# Altium schematic symbol library Nosrati.SchLib: 192 symbols (part 1 of 3)
Pins are listed as number, name and electrical type; pins without a type are passive.

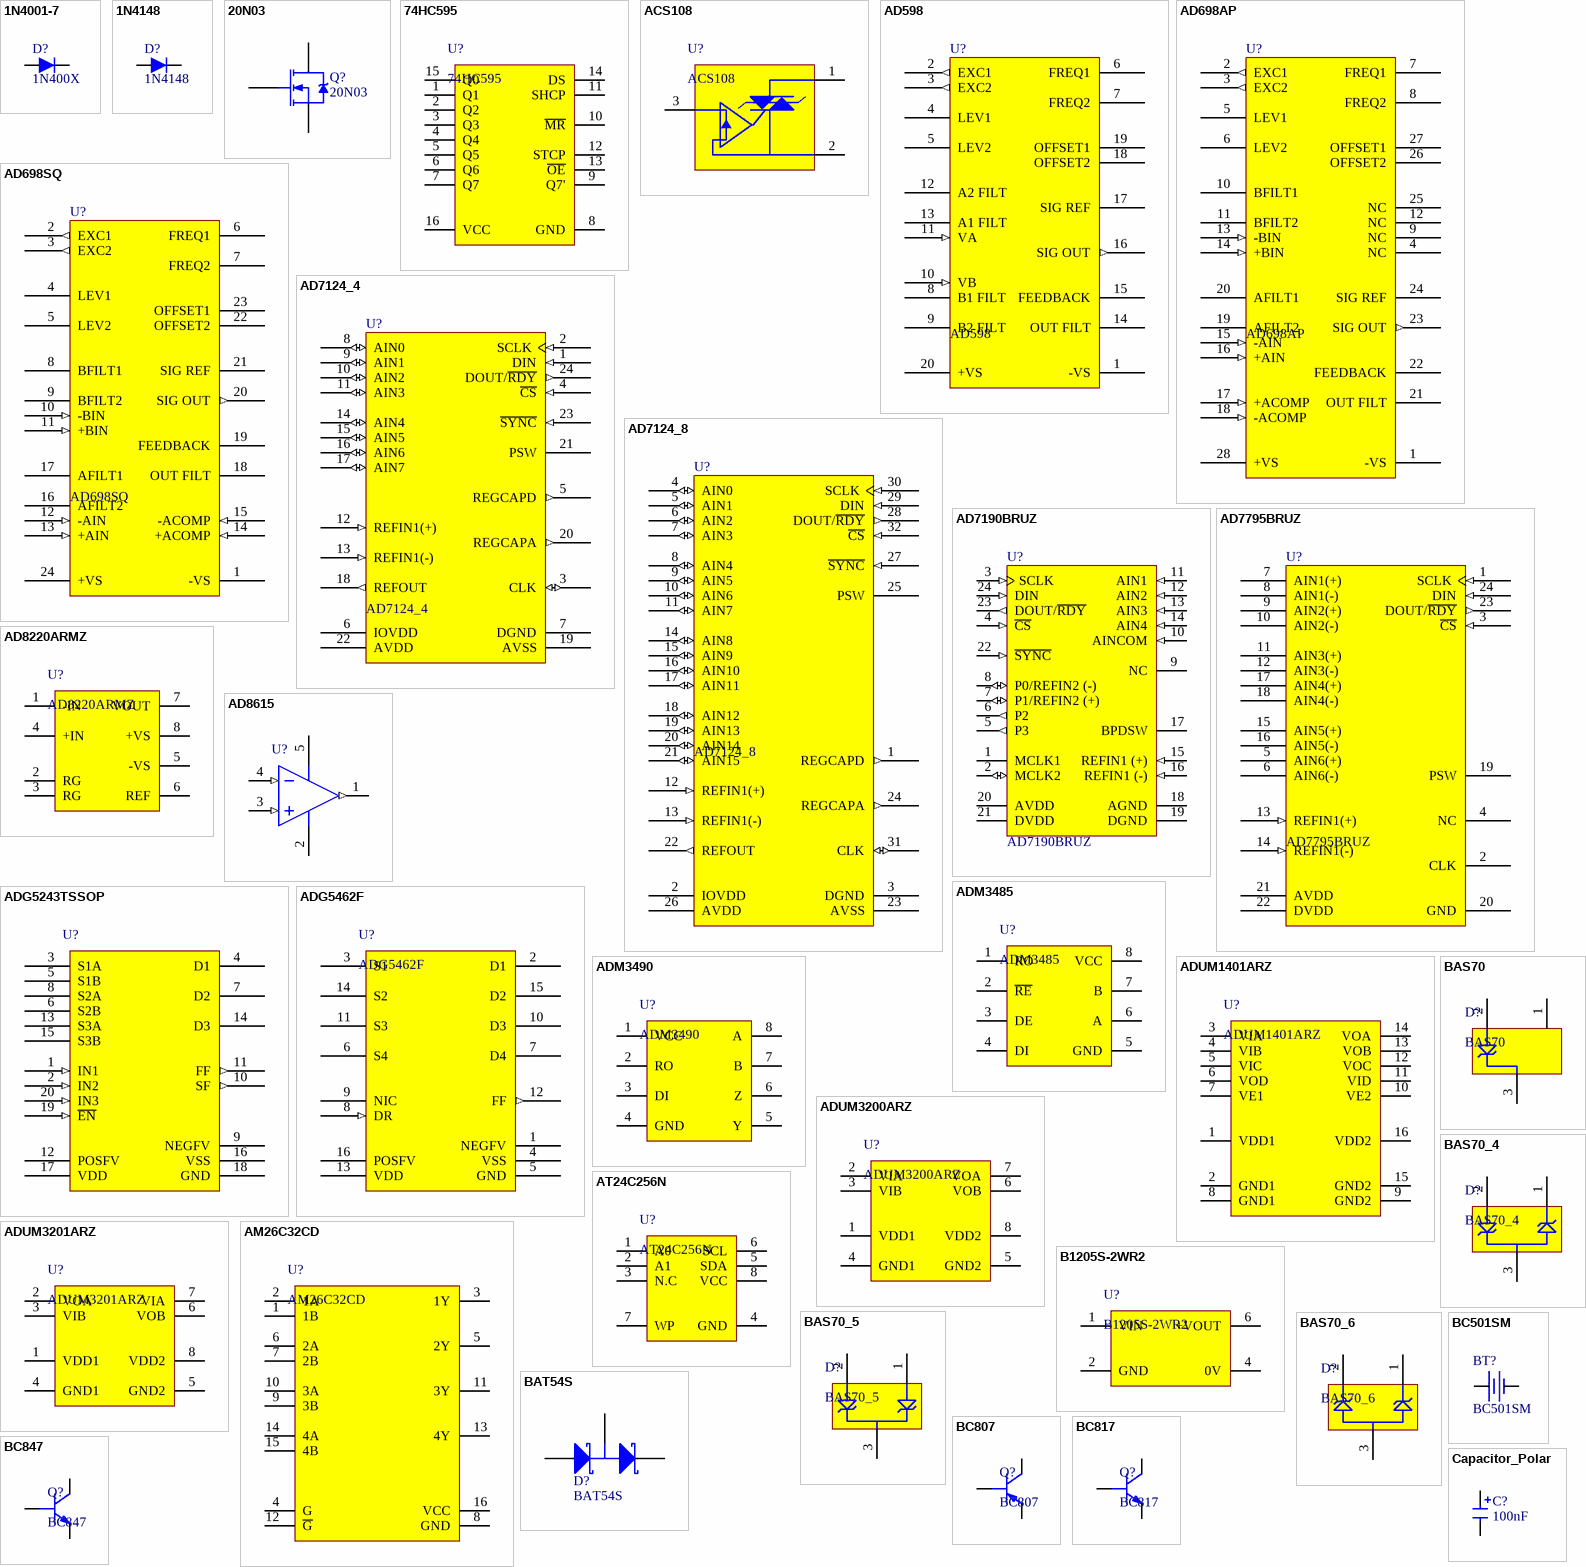
[diagram p0: symbols 1N4001-7 to Capacitor_Polar]

## 1N4001-7
designator D?, comment 1N400X
1A Rectifier Diodes.
footprint DO-214AC(SMA)
pins: 1 A, 2 K

## 1N4148
designator D?
footprint SOD-123
footprint SOD-323
pins: 1 A, 2 K

## 20N03
designator Q?
isc N-Channel MOSFET Transistor; Published: 8-Jun-2000; LatestRevisionDate: 20-Nov-2009; LatestRevisionNote: IPC-7351 Footprint Added.; DatasheetVersion: Aug-1997; PackageReference: SOT-23; Publisher: Altium Limited; PackageDescription: 3-Pin SOT-23 Package 0.95 mm Pitch, 2.3 mm Lead Span; ComponentLink1Description: Manufacturer Link; ComponentLink1URL: http://www.irf.com/; ComponentLink2Description: Datasheet; ComponentLink2URL: http://www.irf.com/product-info/datasheets/data/irlml2402.pdf
footprint TO-252
pins: 1 G, 2 D, 3 S

## 74HC595
designator U?
8-bit serial-in, serial or parallel-out shift register with output / latches; 3-state
footprint SO16
pins: 1 Q1 "parallel data output", 2 Q2 "parallel data output", 3 Q3 "parallel data output", 4 Q4 "parallel data output", 5 Q5 "parallel data output", 6 Q6 "parallel data output", 7 Q7 "parallel data output", 8 GND "Ground (0 V)", 9 Q7' "Serial data output", 10 ~{MR} "Master reset (active LOW)", 11 SHCP "Shift register clock input", 12 STCP "Storage register clock input", 13 ~{OE} "Output enable (active LOW)", 14 DS "serial data input", 15 Q0 "parallel data output", 16 VCC "Positive supply voltage"

## ACS108
designator U?
Overvoltage protected AC switch
footprint SOT223_L (SOT223, 4-Leads, Body 6.5x3.5mm, Pitch 2.3mm, Lead Span 7mm, IPC High Density)
footprint SOT223_M (SOT223, 4-Leads, Body 6.5x3.5mm, Pitch 2.3mm, Lead Span 7mm, IPC Low Density)
footprint SOT223_N (SOT223, 4-Leads, Body 6.5x3.5mm, Pitch 2.3mm, Lead Span 7mm, IPC Medium Density)
pins: 1 OUT "Output to connect to the load.", 2 COM "Common drive reference to connect to the mains", 3 G "Gate input to connect to the controller through gate resistor"

## AD598
designator U?
LVDT Signal Conditioner; Generic Part Number: AD7190; Manufacturer: Analog Devices; PartNumber: AD7190BRUZ; Resolution (Bits): 24; Channels: 4; Throughput Rate (SPS): 4.8K; Interface: Ser, SPI; Packing: Tube; DatasheetVersion: Rev.B; PackageVersion: 2002; PackageReference: RU-24; PackageDescription: 24-Lead Thin Shrink Small Outline Package [TSSOP]; Supplier 1: Digi-Key; Supplier Part Number 1: AD7190BRUZ-ND; Supplier 2: Farnell; Supplier Part Number 2: 2305548; Supplier 3: Newark; Supplier Part Number 3: 34P3182; Supplier 4: Mouser; Supplier Part Number 4: 584-AD7190BRUZ; RoHS: Y; Mounting Technology: Surface Mount; Code_JEDEC: MO-153-AD; ComponentLink1Description: Manufacturer URL; ComponentLink1URL: http://www.analog.com/en/index.html; ComponentLink2Description: Datasheet; ComponentLink2URL: http://www.analog.com/static/imported-files/data_sheets/AD7190.pdf; ComponentLink3Description: Package Specification; ComponentLink3URL: http://www.analog.com/static/imported-files/packages/380523655245964505593671154107510036154RU24.pdf; ComponentLink4Description: Product URL; ComponentLink4URL: http://www.analog.com/en/analog-to-digital-converters/ad-converters/ad7190/products/product.html
footprint DIP20
pins: 1 -VS, 2 EXC1 (out), 3 EXC2 (out), 4 LEV1, 5 LEV2, 6 FREQ1, 7 FREQ2, 8 B1 FILT, 9 B2 FILT, 10 VB (in), 11 VA (in), 12 A2 FILT, 13 A1 FILT, 14 OUT FILT, 15 FEEDBACK, 16 SIG OUT (out), 17 SIG REF, 18 OFFSET2, 19 OFFSET1, 20 +VS

## AD698AP
designator U?
LVDT Signal Conditioner; Generic Part Number: AD7190; Manufacturer: Analog Devices; PartNumber: AD7190BRUZ; Resolution (Bits): 24; Channels: 4; Throughput Rate (SPS): 4.8K; Interface: Ser, SPI; Packing: Tube; DatasheetVersion: Rev.B; PackageVersion: 2002; PackageReference: RU-24; PackageDescription: 24-Lead Thin Shrink Small Outline Package [TSSOP]; Supplier 1: Digi-Key; Supplier Part Number 1: AD7190BRUZ-ND; Supplier 2: Farnell; Supplier Part Number 2: 2305548; Supplier 3: Newark; Supplier Part Number 3: 34P3182; Supplier 4: Mouser; Supplier Part Number 4: 584-AD7190BRUZ; RoHS: Y; Mounting Technology: Surface Mount; Code_JEDEC: MO-153-AD; ComponentLink1Description: Manufacturer URL; ComponentLink1URL: http://www.analog.com/en/index.html; ComponentLink2Description: Datasheet; ComponentLink2URL: http://www.analog.com/static/imported-files/data_sheets/AD7190.pdf; ComponentLink3Description: Package Specification; ComponentLink3URL: http://www.analog.com/static/imported-files/packages/380523655245964505593671154107510036154RU24.pdf; ComponentLink4Description: Product URL; ComponentLink4URL: http://www.analog.com/en/analog-to-digital-converters/ad-converters/ad7190/products/product.html
footprint PLCC28_M (PLCC 28-Pin)
footprint PLCC28_N (PLCC 28-Pin)
footprint PLCC28_L (PLCC 28-Pin)
pins: 1 -VS, 2 EXC1 (out), 3 EXC2 (out), 4 NC, 5 LEV1, 6 LEV2, 7 FREQ1, 8 FREQ2, 9 NC, 10 BFILT1, 11 BFILT2, 12 NC, 13 -BIN (in), 14 +BIN (in), 15 -AIN (in), 16 +AIN (in), 17 +ACOMP (in), 18 -ACOMP (in), 19 AFILT2, 20 AFILT1, 21 OUT FILT, 22 FEEDBACK, 23 SIG OUT (out), 24 SIG REF, 25 NC, 26 OFFSET2, 27 OFFSET1, 28 +VS

## AD698SQ
designator U?
LVDT Signal Conditioner; Generic Part Number: AD7190; Manufacturer: Analog Devices; PartNumber: AD7190BRUZ; Resolution (Bits): 24; Channels: 4; Throughput Rate (SPS): 4.8K; Interface: Ser, SPI; Packing: Tube; DatasheetVersion: Rev.B; PackageVersion: 2002; PackageReference: RU-24; PackageDescription: 24-Lead Thin Shrink Small Outline Package [TSSOP]; Supplier 1: Digi-Key; Supplier Part Number 1: AD7190BRUZ-ND; Supplier 2: Farnell; Supplier Part Number 2: 2305548; Supplier 3: Newark; Supplier Part Number 3: 34P3182; Supplier 4: Mouser; Supplier Part Number 4: 584-AD7190BRUZ; RoHS: Y; Mounting Technology: Surface Mount; Code_JEDEC: MO-153-AD; ComponentLink1Description: Manufacturer URL; ComponentLink1URL: http://www.analog.com/en/index.html; ComponentLink2Description: Datasheet; ComponentLink2URL: http://www.analog.com/static/imported-files/data_sheets/AD7190.pdf; ComponentLink3Description: Package Specification; ComponentLink3URL: http://www.analog.com/static/imported-files/packages/380523655245964505593671154107510036154RU24.pdf; ComponentLink4Description: Product URL; ComponentLink4URL: http://www.analog.com/en/analog-to-digital-converters/ad-converters/ad7190/products/product.html
footprint DIP24-Wide
pins: 1 -VS, 2 EXC1 (out), 3 EXC2 (out), 4 LEV1, 5 LEV2, 6 FREQ1, 7 FREQ2, 8 BFILT1, 9 BFILT2, 10 -BIN (in), 11 +BIN (in), 12 -AIN (in), 13 +AIN (in), 14 +ACOMP (in), 15 -ACOMP (in), 16 AFILT2, 17 AFILT1, 18 OUT FILT, 19 FEEDBACK, 20 SIG OUT (out), 21 SIG REF, 22 OFFSET2, 23 OFFSET1, 24 +VS

## AD7124_4
designator U?
4-Channel, Low Noise, Low Power, 24-Bit, Sigma-Delta ADC with PGA and Reference; Generic Part Number: AD7190; Manufacturer: Analog Devices; PartNumber: AD7190BRUZ; Resolution (Bits): 24; Channels: 4; Throughput Rate (SPS): 4.8K; Interface: Ser, SPI; Packing: Tube; DatasheetVersion: Rev.B; PackageVersion: 2002; PackageReference: RU-24; PackageDescription: 24-Lead Thin Shrink Small Outline Package [TSSOP]; Supplier 1: Digi-Key; Supplier Part Number 1: AD7190BRUZ-ND; Supplier 2: Farnell; Supplier Part Number 2: 2305548; Supplier 3: Newark; Supplier Part Number 3: 34P3182; Supplier 4: Mouser; Supplier Part Number 4: 584-AD7190BRUZ; RoHS: Y; Mounting Technology: Surface Mount; Code_JEDEC: MO-153-AD; ComponentLink1Description: Manufacturer URL; ComponentLink1URL: http://www.analog.com/en/index.html; ComponentLink2Description: Datasheet; ComponentLink2URL: http://www.analog.com/static/imported-files/data_sheets/AD7190.pdf; ComponentLink3Description: Package Specification; ComponentLink3URL: http://www.analog.com/static/imported-files/packages/380523655245964505593671154107510036154RU24.pdf; ComponentLink4Description: Product URL; ComponentLink4URL: http://www.analog.com/en/analog-to-digital-converters/ad-converters/ad7190/products/product.html
footprint TSSOP24
pins: 1 DIN (in) "Serial Data Input to the Input Shift Register on the ADC.", 2 SCLK (in) "Serial Clock Input.", 3 CLK (io) "Clock Input/Clock Output.", 4 ~{CS} (in) "Chip Select Input", 5 REGCAPD (out) "Digital LDO Regulator Output.", 6 IOVDD (power) "Serial Interface Supply Voltage, 1.65 V to 3.6 V. IOVDD is independent of AVDD.", 7 DGND (power) "Digital Ground Reference Point.", 8 AIN0 (io) "Analog Input 0 /Output of Internal Excitation Current Source/Bias Voltage.", 9 AIN1 (io) "Analog Input 1 /Output of Internal Excitation Current Source/Bias Voltage.", 10 AIN2 (io) "Analog Input 2/Output of Internal Excitation Current Source/Bias Voltage/GeneralPurpose Output 1.", 11 AIN3 (io) "Analog Input 3/Output of Internal Excitation Current Source/Bias Voltage/GeneralPurpose Output 2.", 12 REFIN1(+) (in) "Positive Reference Input.", 13 REFIN1(-) (in) "Negative Reference Input.", 14 AIN4 (io) "Analog Input 4/Output of Internal Excitation Current Source/Bias Voltage.", 15 AIN5 (io) "Analog Input 5/Output of Internal Excitation Current Source/Bias Voltage.", 16 AIN6 (io) "Analog Input 6/Output of Internal Excitation Current Source/Bias Voltage/Positive Reference Inpput.", 17 AIN7 (io) "Analog Input 7/Output of Internal Excitation Current Source/Bias Voltage/Negative Reference Inpput.", 18 REFOUT (out) "Internal Reference Output.", 19 AVSS (power) "Analog Supply Voltage.", 20 REGCAPA (out) "Analog LDO Regulator Output.", 21 PSW "Low-Side Power Switch to AVSS", 22 AVDD (power) "Analog Supply Voltage, Relative to AVSS.", 23 ~{SYNC} (in) "Synchronization Input.", 24 DOUT/~{RDY} (out) "Serial Data Output/Data Ready Output."

## AD7124_8
designator U?
8-Channel, Low Noise, Low Power, 24-Bit, Sigma-Delta ADC with PGA and Reference; Generic Part Number: AD7190; Manufacturer: Analog Devices; PartNumber: AD7190BRUZ; Resolution (Bits): 24; Channels: 4; Throughput Rate (SPS): 4.8K; Interface: Ser, SPI; Packing: Tube; DatasheetVersion: Rev.B; PackageVersion: 2002; PackageReference: RU-24; PackageDescription: 24-Lead Thin Shrink Small Outline Package [TSSOP]; Supplier 1: Digi-Key; Supplier Part Number 1: AD7190BRUZ-ND; Supplier 2: Farnell; Supplier Part Number 2: 2305548; Supplier 3: Newark; Supplier Part Number 3: 34P3182; Supplier 4: Mouser; Supplier Part Number 4: 584-AD7190BRUZ; RoHS: Y; Mounting Technology: Surface Mount; Code_JEDEC: MO-153-AD; ComponentLink1Description: Manufacturer URL; ComponentLink1URL: http://www.analog.com/en/index.html; ComponentLink2Description: Datasheet; ComponentLink2URL: http://www.analog.com/static/imported-files/data_sheets/AD7190.pdf; ComponentLink3Description: Package Specification; ComponentLink3URL: http://www.analog.com/static/imported-files/packages/380523655245964505593671154107510036154RU24.pdf; ComponentLink4Description: Product URL; ComponentLink4URL: http://www.analog.com/en/analog-to-digital-converters/ad-converters/ad7190/products/product.html
footprint CP32_N (QFN, 32-Leads, Body 5x5mm, Pitch 0.5mm)
footprint CP32_M (QFN, 32-Leads, Body 5x5mm)
footprint CP32_L (QFN, 32-Leads, Body 5x5mm)
pins: 1 REGCAPD (out) "Digital LDO Regulator Output.", 2 IOVDD (power) "Serial Interface Supply Voltage, 1.65 V to 3.6 V. IOVDD is independent of AVDD.", 3 DGND (power) "Digital Ground Reference Point.", 4 AIN0 (io) "Analog Input 0/Output of Internal Excitation Current Source/Bias Voltage.", 5 AIN1 (io) "Analog Input 1/Output of Internal Excitation Current Source/Bias Voltage.", 6 AIN2 (io) "Analog Input 2/Output of Internal Excitation Current Source/Bias Voltage/General-Purpose Output 1.", 7 AIN3 (io) "Analog Input 3/Output of Internal Excitation Current Source/Bias Voltage/General-Purpose Output 2.", 8 AIN4 (io) "Analog Input 4/Output of Internal Excitation Current Source/Bias Voltage/General-Purpose Output 3.", 9 AIN5 (io) "Analog Input 5/Output of Internal Excitation Current Source/Bias Voltage/General-Purpose Output 4.", 10 AIN6 (io) "Analog Input 6/Output of Internal Excitation Current Source/Bias Voltage.", 11 AIN7 (io) "Analog Input 7/Output of Internal Excitation Current Source/Bias Voltage.", 12 REFIN1(+) (in) "Positive Reference Input.", 13 REFIN1(-) (in) "Negative Reference Input.", 14 AIN8 (io) "Analog Input 8/Output of Internal Excitation Current Source/Bias Voltage.", 15 AIN9 (io) "Analog Input 9/Output of Internal Excitation Current Source/Bias Voltage.", 16 AIN10 (io) "Analog Input 10/Output of Internal Excitation Current Source/Bias Voltage.", 17 AIN11 (io) "Analog Input 11/Output of Internal Excitation Current Source/Bias Voltage.", 18 AIN12 (io) "Analog Input 12/Output of Internal Excitation Current Source/Bias Voltage.", 19 AIN13 (io) "Analog Input 13/Output of Internal Excitation Current Source/Bias Voltage.", 20 AIN14 (io) "Analog Input 14/Output of Internal Excitation Current Source/Bias Voltage/Positive Reference Input.", 21 AIN15 (io) "Analog Input 15/Output of Internal Excitation Current Source/Bias Voltage/Negative Reference Input.", 22 REFOUT (out) "Internal Reference Output.", 23 AVSS (power) "Analog Supply Voltage.", 24 REGCAPA (out) "Analog LDO Regulator Output.", 25 PSW "Low-Side Power Switch to AVSS", 26 AVDD (power) "Analog Supply Voltage, Relative to AVSS.", 27 ~{SYNC} (in) "Synchronization Input.", 28 DOUT/~{RDY} (out) "Serial Data Output/Data Ready Output.", 29 DIN (in) "Serial Data Input to the Input Shift Register on the ADC.", 30 SCLK (in) "Serial Clock Input.", 31 CLK (io) "Clock Input/Clock Output.", 32 ~{CS} (in) "Chip Select Input"

## AD7190BRUZ
designator U?
Quad 24-Bit Ultralow Noise Sigma-Delta Analog-to-Digital Converter with Serial, SPI Interface and PGA, 4.8KSPS, -40 to +105 degC, RU-24, Pb-Free, Tube; Generic Part Number: AD7190; Manufacturer: Analog Devices; Resolution (Bits): 24; Channels: 4; Throughput Rate (SPS): 4.8K; Interface: Ser, SPI; DatasheetVersion: Rev.B; PackageVersion: 2002; PackageReference: RU-24; PackageDescription: 24-Lead Thin Shrink Small Outline Package [TSSOP]; Supplier 1: Digi-Key; Supplier Part Number 1: AD7190BRUZ-ND; Supplier 2: Farnell; Supplier Part Number 2: 2305548; Supplier 3: Newark; Supplier Part Number 3: 34P3182; Supplier 4: Mouser; Supplier Part Number 4: 584-AD7190BRUZ; RoHS: Y; Packing: Tube; Mounting Technology: Surface Mount; Code_JEDEC: MO-153-AD; PartNumber: AD7190BRUZ; ComponentLink1Description: Manufacturer URL; ComponentLink1URL: http://www.analog.com/en/index.html; ComponentLink2Description: Datasheet; ComponentLink2URL: http://www.analog.com/static/imported-files/data_sheets/AD7190.pdf; ComponentLink3Description: Package Specification; ComponentLink3URL: http://www.analog.com/static/imported-files/packages/380523655245964505593671154107510036154RU24.pdf; ComponentLink4Description: Product URL; ComponentLink4URL: http://www.analog.com/en/analog-to-digital-converters/ad-converters/ad7190/products/product.html
footprint TSSOP24
pins: 1 MCLK1 "When the master clock for the device is provided externally by a crystal, the crystal is connected between MCLK1 and MCLK2.", 2 MCLK2 (io) "Master Clock Signal for the Device. The AD7190 has an internal 4.92 MHz clock. This internal clock can be made available on the MCLK2 pin. The clock for the AD7190 can be provided externally also in the form of a crystal or (See Datasheet)", 3 SCLK (in) "Serial Clock Input. This serial clock input is for data transfers to and from the ADC. The SCLK has a Schmitt-triggered input, making the interface suitable for opto-isolated applications. The serial clock can be continuous (See Datasheet)", 4 ~{CS} (in) "Chip Select Input. This is an active low logic input used to select the ADC. C\S\ can be used to select the ADC in systems with more than one device on the serial bus or as a frame synchronization signal in communicating (See Datasheet)", 5 P3 (out) "Digital Output Pin. This pin can function as a general-purpose output bit referenced between AVDD and AGND.", 6 P2 (out) "Digital Output Pin. This pin can function as a general-purpose output bit referenced between AVDD and AGND.", 7 P1/REFIN2 (+) (io) "Digital Output Pin/Positive Reference Input. This pin functions as a general-purpose output bit referenced between AVDD and AGND. When REFSEL = 1, this pin functions as REFIN2(+). An external reference can be applied between (See Datasheet)", 8 P0/REFIN2 (-) (io) "Digital Output Pin/Negative Reference Input. This pin functions as a general-purpose output bit referenced between AVDD and AGND. When REFSEL = 1, this pin functions as REFIN2(-). This reference input can lie anywhere (See Datasheet)", 9 NC "No Connect. This pin should be tied to AGND.", 10 AINCOM (in) "Analog Input AIN1 to Analog Input AIN4 are referenced to this input when configured for pseudo differential operation.", 11 AIN1 (in) "Analog Input. It can be configured as the positive input of a fully differential input pair when used with AIN2 or as a pseudo differential input when used with AINCOM.", 12 AIN2 (in) "Analog Input. It can be configured as the negative input of a fully differential input pair when used with AIN1 or as a pseudo differential input when used with AINCOM.", 13 AIN3 (in) "Analog Input. It can be configured as the positive input of a fully differential input pair when used with AIN4 or as a pseudo differential input when used with AINCOM.", 14 AIN4 (in) "Analog Input. It can be configured as the negative input of a fully differential input pair when used with AIN3 or as a pseudo differential input when used with AINCOM.", 15 REFIN1 (+) (in) "Positive Reference Input. An external reference can be applied between REFIN1(+) and REFIN1(-). REFIN1(+) can lie anywhere between AVDD and AGND + 1 V. The nominal reference voltage, (REFIN1(+) - REFIN1(-)), is AVDD, but the (See Datasheet)", 16 REFIN1 (-) (in) "Negative Reference Input. This reference input can lie anywhere between AGND and AVDD -1 V.", 17 BPDSW "Bridge Power-Down Switch to AGND.", 18 AGND (power) "Analog Ground Reference Point.", 19 DGND (power) "Digital Ground Reference Point.", 20 AVDD (power) "Analog Supply Voltage, 4.75 V to 5.25 V. AVDD is independent of DVDD.", 21 DVDD (power) "Digital Supply Voltage, 2.7 V to 5.25 V. DVDD is independent of AVDD.", 22 ~{SYNC} (in) "Logic input that allows for synchronization of the digital filters and analog modulators when using multiple AD7190 devices. While S\Y\N\C\ is low, the nodes of the digital filter, the filter control logic, and the (See Datasheet)", 23 DOUT/~{RDY} (out) "Serial Data Output/Data Ready Output. DOUT/R\D\Y\serves a dual purpose. It functions as a serial data output pin to access the output shift register of the ADC. The output shift register can contain data from any of the (See Datasheet)", 24 DIN (in) "Serial Data Input to the Input Shift Register on the ADC. Data in this shift register is transferred to the control registers in the ADC, with the register selection bits of the communications register identifying the (See Datasheet)"

## AD7795BRUZ
designator U?
6-Channel, Low Noise, Low Power, 16-Bit ∑-Δ ADC with On-Chip In-Amp and Reference; Generic Part Number: AD7190; Manufacturer: Analog Devices; PartNumber: AD7190BRUZ; Resolution (Bits): 24; Channels: 4; Throughput Rate (SPS): 4.8K; Interface: Ser, SPI; Packing: Tube; DatasheetVersion: Rev.B; PackageVersion: 2002; PackageReference: RU-24; PackageDescription: 24-Lead Thin Shrink Small Outline Package [TSSOP]; Supplier 1: Digi-Key; Supplier Part Number 1: AD7190BRUZ-ND; Supplier 2: Farnell; Supplier Part Number 2: 2305548; Supplier 3: Newark; Supplier Part Number 3: 34P3182; Supplier 4: Mouser; Supplier Part Number 4: 584-AD7190BRUZ; RoHS: Y; Mounting Technology: Surface Mount; Code_JEDEC: MO-153-AD; ComponentLink1Description: Manufacturer URL; ComponentLink1URL: http://www.analog.com/en/index.html; ComponentLink2Description: Datasheet; ComponentLink2URL: http://www.analog.com/static/imported-files/data_sheets/AD7190.pdf; ComponentLink3Description: Package Specification; ComponentLink3URL: http://www.analog.com/static/imported-files/packages/380523655245964505593671154107510036154RU24.pdf; ComponentLink4Description: Product URL; ComponentLink4URL: http://www.analog.com/en/analog-to-digital-converters/ad-converters/ad7190/products/product.html
footprint TSSOP24
pins: 1 SCLK (in) "Serial Clock Input.", 2 CLK "Clock Input/Clock Output.", 3 ~{CS} (in) "Chip Select Input", 4 NC "No Connect.", 5 AIN6(+) "Analog Input/Digital Output Pin.", 6 AIN6(-) "Analog Input/Digital Output Pin.", 7 AIN1(+) "Analog Input.", 8 AIN1(-) "Analog Input.", 9 AIN2(+) "Analog Input.", 10 AIN2(-) "Analog Input.", 11 AIN3(+) "Analog Input.", 12 AIN3(-) "Analog Input.", 13 REFIN1(+) (in) "Positive Reference Input.", 14 REFIN1(-) (in) "Negative Reference Input.", 15 AIN5(+) "Analog Input/Output of Internal Excitation Current Source.", 16 AIN5(-) "Analog Input/Output of Internal Excitation Current Source.", 17 AIN4(+) "Analog Input/Positive Reference Input.", 18 AIN4(-) "Analog Input/Negative Reference Input.", 19 PSW "Low-Side Power Switch to GND", 20 GND (power) "Ground Reference Point.", 21 AVDD (power) "Supply Voltage, 2.7 V to 5.25 V.", 22 DVDD (power) "Serial Interface Supply Voltage, 2.7 V to 5.25 V.", 23 DOUT/~{RDY} (out) "Serial Data Output/Data Ready Output.", 24 DIN (in) "Serial Data Input to the Input Shift Register on the ADC."

## AD8220ARMZ
designator U?
jfet input Instrumentation amplifier with rail-to-rail output
footprint MSOP-8
pins: 1 -IN, 2 RG, 3 RG, 4 +IN, 5 -VS, 6 REF, 7 VOUT, 8 +VS

## AD8615
designator U?
Single Channel Wide Bandwidth Operational Amplifier, 23 MHz BW, 12 V/us SR, Industrial, 5-pin SOT23 (UJ-5), Reel; Generic Part Number: AD8615; Manufacturer: Analog Devices; PartNumber: AD8615AUJZ-REEL; Amplifiers Per Package: 1; Input Bias Current: 200fA; Input Offset Voltage: 80uV; Iq/Amp: 1.7mA; Slew Rate: 12V/us; Small Signal Bandwidth: 23MHz; V Span Max: 6V; V Span Min: 2.7V; DatasheetVersion: Rev. E; PackageVersion: 100708-A; PackageReference: UJ-5; PackageDescription: 5-Pin Thin Small Outline Transistor Package, Body 2.9 x 1.6 mm, Pitch 0.95 mm; Supplier 1: Digi-Key; Supplier Part Number 1: AD8615AUJZ-REEL-ND; Mounting Technology: Surface Mount; Code_JEDEC: MO-193-AB; ComponentLink1Description: Manufacturer URL; ComponentLink1URL: http://www.analog.com/en/index.html; ComponentLink2Description: Datasheet; ComponentLink2URL: http://www.analog.com/static/imported-files/data_sheets/AD8615_8616_8618.pdf; ComponentLink3Description: Package Specification; ComponentLink3URL: http:/www.analog.com/static/imported-files/packages/PKG_PDF/TSOT(UJ)/UJ_5.pdf; ComponentLink4Description: Reference Circuit; ComponentLink4URL: http://www.analog.com/en/all-operational-amplifiers-op-amps/operational-amplifiers-op-amps/ad8615/products/product.html#product-recommendations
footprint SOT23-5_M
footprint SOT23-5_L
footprint SOT23-5_N
pins: 1 OUT (out), 2 -V (power), 3 +IN (in), 4 -IN (in), 5 +V (power)

## ADG5243TSSOP
designator U?
User Defined Fault Protection and Detection, 0.8 pC QINJ, Triple SPDT; Manufacturer: Analog Devices; PartNumber: ADG5434BRUZ; # Sw Functions: 4; Max Neg Supply: -22V; Max Pos Supply: +40V; Packing: Tube; Ron (ohms): 13.5, 12.5, 26, 14.5; t ON: 160ns, 152ns, 228ns, 176ns; DatasheetVersion: Rev. B; PackageVersion: Jan-03; PackageReference: RU-20; PackageDescription: 20-Pin Thin Shrink Small Outline Package, Body 6.5 x 4.4 mm, Pitch 0.65 mm; Supplier 1: Digi-Key; Supplier Part Number 1: ADG5434BRUZ-ND; Supplier 2: Farnell; Supplier Part Number 2: 2081055; Supplier 3: Newark; Supplier Part Number 3: 18T1966; Supplier 4: Mouser; Supplier Part Number 4: 584-ADG5434BRUZ; Configuration: SPDT; Mounting Technology: Surface Mount; Code_JEDEC: MO-153AC; ComponentLink1Description: Manufacturer URL; ComponentLink1URL: http://www.analog.com/en/index.html; ComponentLink2Description: Datasheet; ComponentLink2URL: http://www.analog.com/static/imported-files/data_sheets/ADG5433_5434.pdf; ComponentLink3Description: Package Specification; ComponentLink3URL: http://www.analog.com/static/imported-files/packages/364515793657813558433715854054607941441RU20.pdf
footprint TSSOP20_L (SOP, 20-Leads, Body 6.6x4.5mm, Pitch 0.65mm, IPC High Density)
footprint TSSOP20_M (SOP, 20-Leads, Body 6.6x4.5mm, Pitch 0.65mm, IPC Low Density)
footprint TSSOP20_N (SOP, 20-Leads, Body 6.6x4.5mm, Pitch 0.65mm, IPC Medium Density)
pins: 1 IN1 (in) "Logic Control Input 1.", 2 IN2 (in) "Logic Control Input 1.", 3 S1A "Source Terminal 1A. This pin can be an input or an output.", 4 D1 "Drain Terminal 1. This pin can be an input or an output.", 5 S1B "Source Terminal 1B. This pin can be an input or an output.", 6 S2B "Source Terminal 2B. This pin can be an input or an output.", 7 D2 "Drain Terminal 2. This pin can be an input or an output.", 8 S2A "Source Terminal 2A. This pin can be an input or an output.", 9 NEGFV (power) "Negative Fault Voltage.", 10 SF (out) "Specific Fault Digital Output", 11 FF (out) "Fault Flag Digital Output.", 12 POSFV (power) "Positive Fault Voltage.", 13 S3A "Source Terminal 3A. This pin can be an input or an output.", 14 D3 "Drain Terminal 3. This pin can be an input or an output.", 15 S3B "Source Terminal 3B. This pin can be an input or an output.", 16 VSS (power) "Most Negative Power Supply Potential. In single-supply applications, this pin can be connected to ground.", 17 VDD (power) "Most Positive Power Supply Potential.", 18 GND (power) "Ground (0 V) Reference.", 19 ~{EN} (in) "Active Low Digital Input", 20 IN3 (in) "Logic Control Input 3."

## ADG5462F
designator U?
User Defined Fault Protection and Detection,10 Ω RON, Quad Channel Protector; Manufacturer: Analog Devices; PartNumber: ADG5434BRUZ; # Sw Functions: 4; Configuration: SPDT; Max Neg Supply: -22V; Max Pos Supply: +40V; Packing: Tube; Ron (ohms): 13.5, 12.5, 26, 14.5; t ON: 160ns, 152ns, 228ns, 176ns; DatasheetVersion: Rev. B; PackageVersion: Jan-03; PackageReference: RU-20; PackageDescription: 20-Pin Thin Shrink Small Outline Package, Body 6.5 x 4.4 mm, Pitch 0.65 mm; Supplier 1: Digi-Key; Supplier Part Number 1: ADG5434BRUZ-ND; Supplier 2: Farnell; Supplier Part Number 2: 2081055; Supplier 3: Newark; Supplier Part Number 3: 18T1966; Supplier 4: Mouser; Supplier Part Number 4: 584-ADG5434BRUZ; Mounting Technology: Surface Mount; Code_JEDEC: MO-153AC; ComponentLink1Description: Manufacturer URL; ComponentLink1URL: http://www.analog.com/en/index.html; ComponentLink2Description: Datasheet; ComponentLink2URL: http://www.analog.com/static/imported-files/data_sheets/ADG5433_5434.pdf; ComponentLink3Description: Package Specification; ComponentLink3URL: http://www.analog.com/static/imported-files/packages/364515793657813558433715854054607941441RU20.pdf
footprint TSSOP16
pins: 1 NEGFV (power) "Negative Fault Voltage.", 2 D1 "Drain Terminal 1. This pin can be an input or an output.", 3 S1 "Overvoltage Protected Source Terminal 1.", 4 VSS (power) "Most Negative Power Supply Potential. In single-supply applications, this pin can be connected to ground.", 5 GND (power) "Ground (0 V) Reference.", 6 S4 "Overvoltage Protected Source Terminal 4.", 7 D4 "Drain Terminal 4. This pin can be an input or an output.", 8 DR (in) "Drain Response Digital Input.", 9 NIC "Not Internally Connected.", 10 D3 "Drain Terminal 3. This pin can be an input or an output.", 11 S3 "Overvoltage Protected Source Terminal 3.", 12 FF (out) "Fault Flag Digital Output.", 13 VDD (power) "Most Positive Power Supply Potential.", 14 S2 "Overvoltage Protected Source Terminal 2.", 15 D2 "Drain Terminal 2. This pin can be an input or an output.", 16 POSFV (power) "Positive Fault Voltage."

## ADM3485
designator U?
3.3V, Half-Duplex, RS-485/RS422 Transceiver
footprint SOIC8
pins: 1 RO "Receiver Output.", 2 ~{RE}, 3 DE, 4 DI "Driver Input.", 5 GND "Ground.", 6 A "Noninverting Receiver Input A and Noninverting Driver Output A.", 7 B "nverting Receiver Input B and Inverted Driver Output B.", 8 VCC "Power Supply (3.3 V ± 0.3 V)."

## ADM3490
designator U?
3.3V, Full-Duplex, RS-485/RS422 Transceiver
footprint SOIC8_N (SOIC, 8-Leads, Body 4.9x3.9mm, Pitch 1.27mm, IPC Medium Density)
pins: 1 VCC "Power Supply (3.3 V ± 0.3 V).", 2 RO "Receiver Output.", 3 DI "Driver Input.", 4 GND "Ground.", 5 Y "Noninverting Driver Output.", 6 Z "Inverting Driver Output.", 7 B "Inverting Receiver Input B.", 8 A "Noninverting Receiver Input A."

## ADUM1401ARZ
designator U?
Quad-Channel, Digital Isolators, Enhanced System-Level ESD Reliability
footprint SOIC16W_L (SOIC, 16-Leads, Body (Wide) - 10.5x7.5mm, Pitch 1.27mm)
footprint SOIC16W_M (SOIC, 16-Leads, Body (Wide) - 10.5x7.5mm, Pitch 1.27mm)
footprint SOIC16W_N (SOIC, 16-Leads, Body (Wide) - 10.5x7.5mm, Pitch 1.27mm)
pins: 1 VDD1 "Supply Voltage for Isolator Side 1.", 2 GND1 "Ground 1. Ground reference for Isolator Side 1", 3 VIA "Logic Input A.", 4 VIB "Logic Input B.", 5 VIC "Logic Input C.", 6 VOD "Logic Output D.", 7 VE1 "Output Enable 1. Active high logic input.", 8 GND1 "Ground 1. Ground reference for Isolator Side 1", 9 GND2 "Ground 2. Ground reference for Isolator Side 2.", 10 VE2 "Output Enable 2. Active high logic input.", 11 VID "Logic Input D.", 12 VOC "Logic Output C.", 13 VOB "Logic Output B.", 14 VOA "Logic Output A.", 15 GND2 "Ground 2. Ground reference for Isolator Side 2", 16 VDD2 "Supply Voltage for Isolator Side 2."

## ADUM3200ARZ
designator U?
Dual-Channel, Digital Isolators, Enhanced System-Level ESD Reliability
footprint SOIC8_L (SOIC, 8-Leads, Body 4.9x3.9mm, Pitch 1.27mm, IPC High Density)
footprint SOIC8_M (SOIC, 8-Leads, Body 4.9x3.9mm, Pitch 1.27mm, IPC Low Density)
footprint SOIC8_N (SOIC, 8-Leads, Body 4.9x3.9mm, Pitch 1.27mm, IPC Medium Density)
pins: 1 VDD1 "Supply Voltage for Isolator Side 1.", 2 VIA "Logic Input A.", 3 VIB "Logic Input B.", 4 GND1 "Ground 1. Ground reference for Isolator Side 1", 5 GND2 "Ground 2. Ground reference for Isolator Side 2", 6 VOB "Logic Output B", 7 VOA "Logic Output A.", 8 VDD2 "Supply Voltage for Isolator Side 2."

## ADUM3201ARZ
designator U?
Dual-Channel, Digital Isolators, Enhanced System-Level ESD Reliability
footprint SOIC8_L (SOIC, 8-Leads, Body 4.9x3.9mm, Pitch 1.27mm, IPC High Density)
footprint SOIC8_M (SOIC, 8-Leads, Body 4.9x3.9mm, Pitch 1.27mm, IPC Low Density)
footprint SOIC8_N (SOIC, 8-Leads, Body 4.9x3.9mm, Pitch 1.27mm, IPC Medium Density)
pins: 1 VDD1 "Supply Voltage for Isolator Side 1.", 2 VOA "Logic Output A.", 3 VIB "Logic Input B.", 4 GND1 "Ground 1. Ground reference for Isolator Side 1", 5 GND2 "Ground 2. Ground reference for Isolator Side 2", 6 VOB "Logic Output B", 7 VIA "Logic Input A.", 8 VDD2 "Supply Voltage for Isolator Side 2."

## AM26C32CD
designator U?
Quadruple Differential Line Receiver
footprint SO16
footprint SOP-16
pins: 1 1B, 2 1A, 3 1Y, 4 G, 5 2Y, 6 2A, 7 2B, 8 GND, 9 3B, 10 3A, 11 3Y, 12 ~{G}, 13 4Y, 14 4A, 15 4B, 16 VCC

## AT24C256N
designator U?
Two-wire Serial EEPROMs
footprint SOIC8_N (SOIC, 8-Leads, Body 4.9x3.9mm, Pitch 1.27mm, IPC Medium Density)
footprint SOIC8_M (SOIC, 8-Leads, Body 4.9x3.9mm, Pitch 1.27mm, IPC Low Density)
footprint SOIC8_L (SOIC, 8-Leads, Body 4.9x3.9mm, Pitch 1.27mm, IPC High Density)
pins: 1 A0 "Address Input", 2 A1 "Address Input", 3 N.C "No Connect", 4 GND "Ground", 5 SDA "Serial Data", 6 SCL "Serial Clock Input", 7 WP "Write Protect", 8 VCC "Power supply"

## B1205S-2WR2
designator U?
2W, Single Isolated & Unregulated DC-DC Converter , Input  Voltage:12V , Output Voltage:5V; Manufacturer: Texas Instruments; PartNumber: SN65HVD230D; Eco-Plan: Green (RoHS & no Sb/Br); SubFamily: CAN; Drivers Per Package: 1; Isolated: No; Transient Pulse Protection(V): -25 to 25; Low Power Mode: Standby; ICC(Max)(mA): 17; Supply Voltage(s)(V): 3.3; Rating: Catalog; DatasheetVersion: SLOS346K; PackageVersion: revM, Jun-2011; PackageReference: D8; PackageDescription: 8-Pin Plastic Small Outline Integrated Circuit, 4.9 x 3.9 mm, Pitch 1.27 mm Pitch; Supplier 1: Digi-Key; Supplier Part Number 1: SN65HVD230D-ND; Supplier 2: Farnell; Supplier Part Number 2: 1103105; Supplier 3: Newark; Supplier Part Number 3: 75C7744; Supplier 4: Mouser; Supplier Part Number 4: 595-SN65HVD230D; Receivers Per Package: 1; Footprint: PCA82C250; Mounting Technology: Surface Mount; Code_JEDEC: MS-012AA; ComponentLink1Description: Datasheet; ComponentLink1URL: http://www.ti.com/general/docs/lit/getliterature.tsp?genericPartNumber=SN65HVD230&fileType=pdf
footprint SIP7 (4) (B1205S)
pins: 1 VIN, 2 GND, 4 0V, 6 +VOUT

## BAS70
designator D?
SCHOTTKY BARRIER DIODE
footprint SOT23_M
footprint SOT23_N
footprint SOT23_L
pins: 1, 2, 3

## BAS70_4
designator D?
SCHOTTKY BARRIER DIODE
footprint SOT23_M
footprint SOT23_N
footprint SOT23_L
pins: 1, 2, 3

## BAS70_5
designator D?
SCHOTTKY BARRIER DIODE
footprint SOT23_M
footprint SOT23_N
footprint SOT23_L
pins: 1, 2, 3

## BAS70_6
designator D?
SCHOTTKY BARRIER DIODE
footprint SOT23_M
footprint SOT23_N
footprint SOT23_L
pins: 1, 2, 3

## BAT54S
designator D?
Schottky Barrier Double Diode; Published: 17-Sep-2003; LatestRevisionDate: 12-Dec-2006; LatestRevisionNote: IPC-7351 Footprint Added.; DatasheetVersion: 4-Mar-2002; PackageVersion: May-1999; PackageReference: SOT23; Publisher: Altium Limited; PackageDescription: 3-Pin SOT-23 Package 0.95 mm Pitch, 2.3 mm Lead Span; ComponentLink1Description: Manufacturer Link; ComponentLink1URL: http://www.semiconductors.philips.com/; ComponentLink2Description: Datasheet; ComponentLink2URL: http://www.semiconductors.philips.com/acrobat/datasheets/BAT54_SERIES_4.pdf
footprint SOT23_M
footprint SOT23_N
footprint SOT23_L
pins: 1 A, 2 K, 3 C

## BC501SM
designator BT?
SMD Battry Holder; Designer: Abbas Basereh; Data: 16-12-2016; Link: *; Part. No: *
footprint CR1220 Battery Holder SMD
pins: 1 +, 2 -

## BC807
designator Q?
45V PNP SMALL SIGNAL TRANSISTOR IN SOT23
footprint SOT23_L
footprint SOT23_M
footprint SOT23_N
pins: 1 BASE, 2 EMITTER, 3 COLLECTOR

## BC817
designator Q?
5 V, 500 mA NPN general-purpose transistors
footprint SOT23_L
footprint SOT23_M
footprint SOT23_N
pins: 1 BASE, 2 EMITTER, 3 COLLECTOR

## BC847
designator Q?
NPN Epitaxial Silicon Transistor - 0.1A, 50V
footprint SOT23_L
footprint SOT23_M
footprint SOT23_N
pins: 1 BASE, 2 EMITTER, 3 COLLECTOR

## Capacitor_Polar
designator C?, comment 100nF
Value: 100nF
footprint CAP_TAN_SIZE A
footprint CAP_TAN_SIZE B
footprint CAP_TAN_SIZE C
footprint CAP_TAN_SIZE D
footprint CAP_TAN_SIZE E
pins: 1, 2

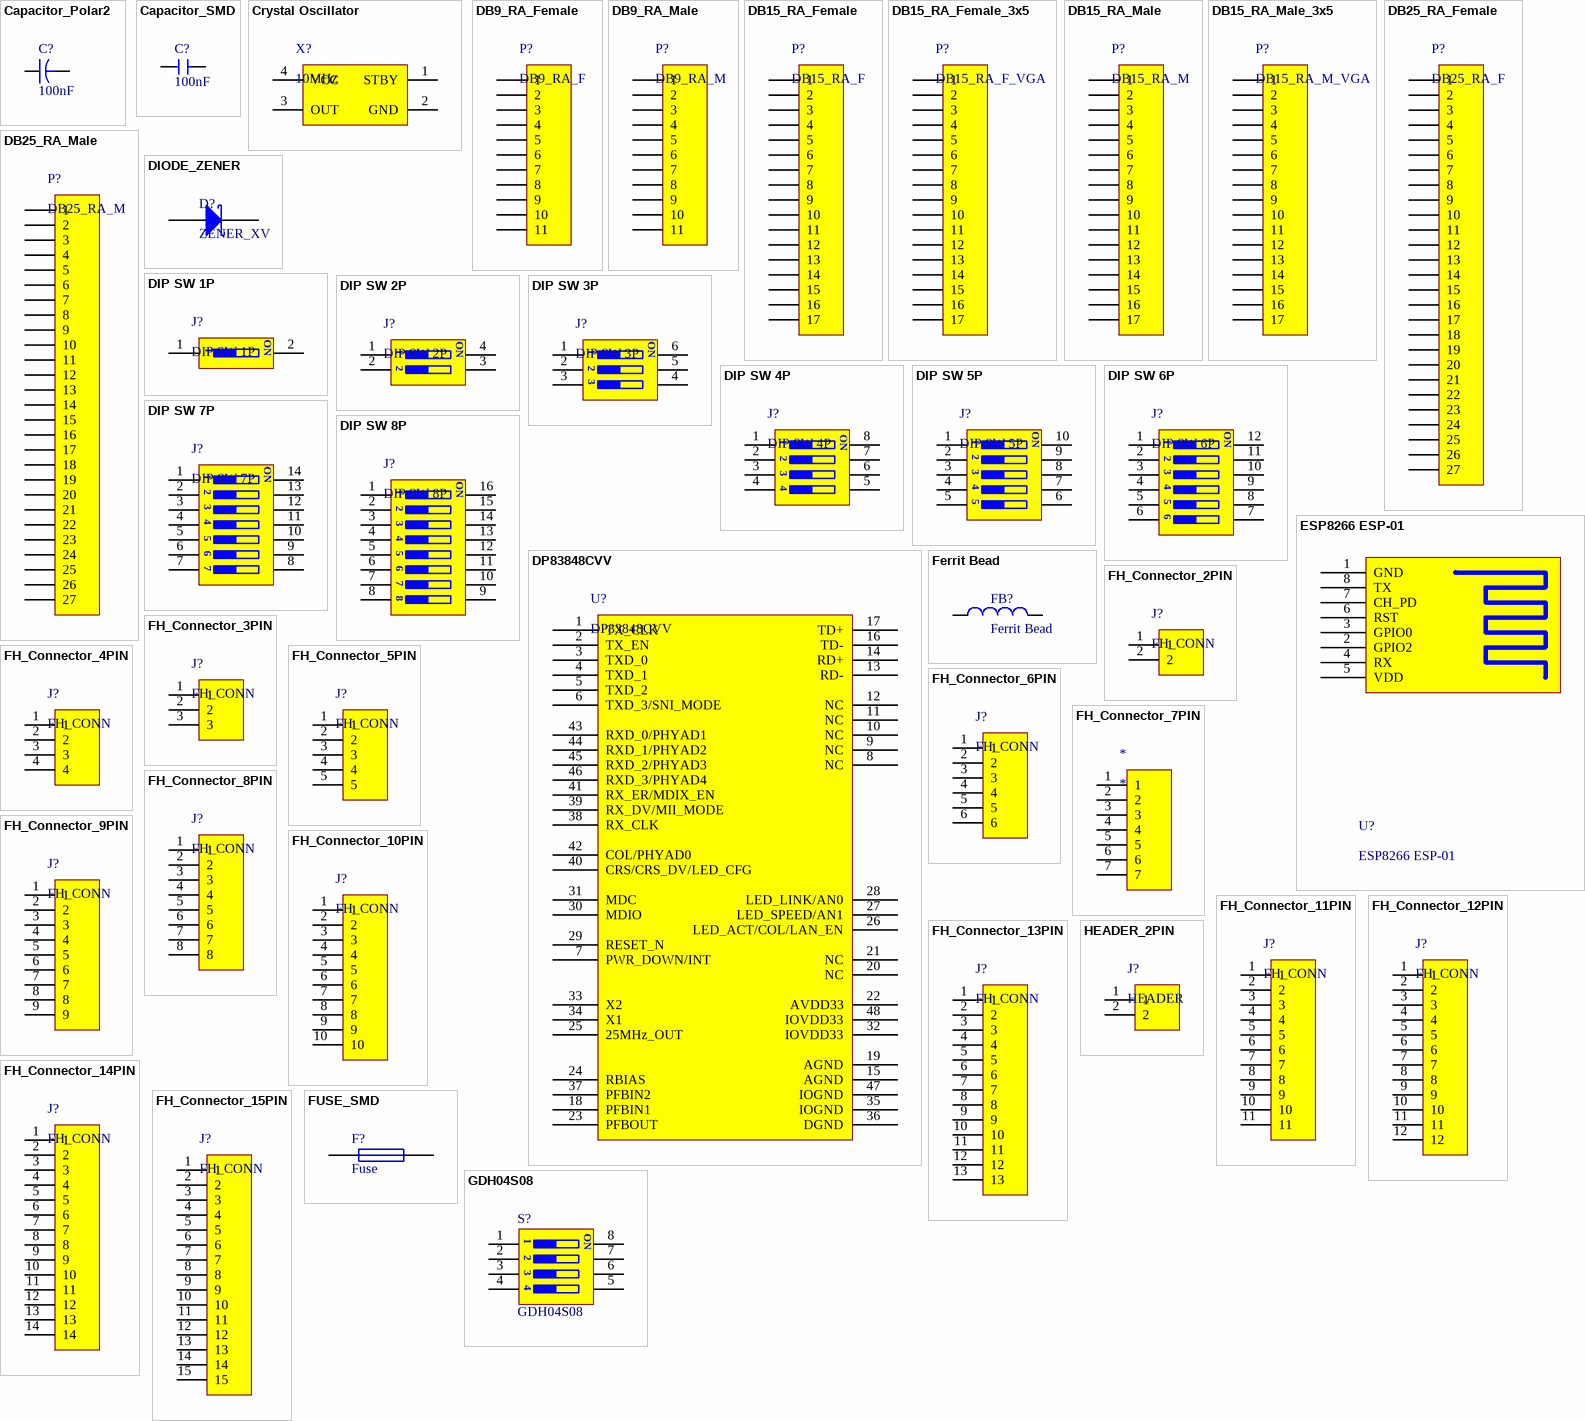
[diagram p1: symbols Capacitor_Polar2 to HEADER_2PIN]

## Capacitor_Polar2
designator C?, comment 100nF
Value: 100nF
footprint CAP_TAN_SIZE A
footprint CAP_TAN_SIZE B
footprint CAP_TAN_SIZE C
footprint CAP_TAN_SIZE D
footprint CAP_TAN_SIZE E
footprint CAP_8x8
footprint CAP_10x10
footprint CAP_RADIAL_25x16
footprint CAP_RADIAL_25x16 _
pins: 1, 2

## Capacitor_SMD
designator C?, comment 100nF
Value: 100nF
footprint CAP_SMD_0402
footprint CAP_SMD_0603
footprint CAP_SMD_0805
footprint CAP_SMD_1206
footprint CAP_SMD_1210
footprint CAP_SMD_1812
pins: 1, 2

## Crystal Oscillator
designator X?, comment 10MHz
footprint XTALL_SMD_5x7 (Crystal Oscillator 5*7mm SMD)
pins: 1 STBY, 2 GND, 3 OUT, 4 VCC

## DB9_RA_Female
designator P?, comment DB9_RA_F
DSUB_RA_9pin_Female
footprint DB9_RA_F (DSUB_9Pin_Right Angle_Female)
pins: 1, 2, 3, 4, 5, 6, 7, 8, 9, 10, 11

## DB9_RA_Male
designator P?, comment DB9_RA_M
DSUB_RA_9pin_Male
footprint DB9_RA_M (DSUB_9Pin_Right Angle_Male)
pins: 1, 2, 3, 4, 5, 6, 7, 8, 9, 10, 11

## DB15_RA_Female
designator P?, comment DB15_RA_F
DSUB_RA_15pin_Female
footprint DB15_RA_F (DSUB_15Pin_Right Angle_Female)
pins: 1, 2, 3, 4, 5, 6, 7, 8, 9, 10, 11, 12, 13, 14, 15, 16, 17

## DB15_RA_Female_3x5
designator P?, comment DB15_RA_F_VGA
DSUB_RA_15pin_Female_VGA (3X5)
footprint DB15_RA_F_VGA (DSUB_15Pin_Right Angle_Female_VGA (3x5))
pins: 1, 2, 3, 4, 5, 6, 7, 8, 9, 10, 11, 12, 13, 14, 15, 16, 17

## DB15_RA_Male
designator P?, comment DB15_RA_M
DSUB_RA_15pin_Male
footprint DB15_RA_M (DSUB_15Pin_Right Angle_Male)
pins: 1, 2, 3, 4, 5, 6, 7, 8, 9, 10, 11, 12, 13, 14, 15, 16, 17

## DB15_RA_Male_3x5
designator P?, comment DB15_RA_M_VGA
DSUB_RA_15pin_Male_VGA (3x5)
footprint DB15_RA_M_VGA (DSUB_15Pin_Right Angle_Male_VGA (3x5))
pins: 1, 2, 3, 4, 5, 6, 7, 8, 9, 10, 11, 12, 13, 14, 15, 16, 17

## DB25_RA_Female
designator P?, comment DB25_RA_F
DSUB_RA_25pin_Female
footprint DB25_RA_F (DSUB_25Pin_Right Angle_Female)
pins: 1, 2, 3, 4, 5, 6, 7, 8, 9, 10, 11, 12, 13, 14, 15, 16, 17, 18, 19, 20, 21, 22, 23, 24, 25, 26, 27

## DB25_RA_Male
designator P?, comment DB25_RA_M
DSUB_RA_25pin_Male
footprint DB25_RA_M (DSUB_25Pin_Right Angle_Male)
pins: 1, 2, 3, 4, 5, 6, 7, 8, 9, 10, 11, 12, 13, 14, 15, 16, 17, 18, 19, 20, 21, 22, 23, 24, 25, 26, 27

## DIODE_ZENER
designator D?, comment ZENER_XV
footprint MINI_MELF
pins: 1 A, 2 K

## DIP SW 1P
designator J?
footprint DIP SW 1P TH
pins: 1, 2
text: ON

## DIP SW 2P
designator J?
footprint DIP SW 2P TH
footprint DIP SW 2P TH RA
footprint DIP SW 2P SMD
pins: 1, 2, 3, 4
text: ON

## DIP SW 3P
designator J?
footprint DIP SW 3P TH
footprint DIP SW 3P TH RA
footprint DIP SW 3P SMD
pins: 1, 2, 3, 4, 5, 6
text: ON

## DIP SW 4P
designator J?
footprint DIP SW 4P TH
footprint DIP SW 4P TH RA
footprint DIP SW 4P SMD Half Bridge (1.27mm Pitch)
footprint DIP SW 4P SMD
pins: 1, 2, 3, 4, 5, 6, 7, 8
text: ON

## DIP SW 5P
designator J?
footprint DIP SW 5P TH
footprint DIP SW 5P TH RA
footprint DIP SW 5P SMD
pins: 1, 2, 3, 4, 5, 6, 7, 8, 9, 10
text: ON

## DIP SW 6P
designator J?
footprint DIP SW 6P SMD
footprint DIP SW 6P TH
footprint DIP SW 6P TH RA
pins: 1, 2, 3, 4, 5, 6, 7, 8, 9, 10, 11, 12
text: ON

## DIP SW 7P
designator J?
footprint DIP SW 7P SMD
footprint DIP SW 7P TH
footprint DIP SW 7P TH RA
pins: 1, 2, 3, 4, 5, 6, 7, 8, 9, 10, 11, 12, 13, 14
text: ON

## DIP SW 8P
designator J?
footprint DIP SW 8P TH
footprint DIP SW 8P TH RA
footprint DIP SW 8P SMD
pins: 1, 2, 3, 4, 5, 6, 7, 8, 9, 10, 11, 12, 13, 14, 15, 16
text: ON

## DP83848CVV
designator U?
footprint LQFP48_N (QFP, 48-Leads, Body 7x7mm, Pitch 0.5mm, IPC Medium Density)
footprint LQFP48_M (QFP, 48-Leads, Body 7x7mm, Pitch 0.5mm, IPC Low Density)
footprint LQFP48_L (QFP, 48-Leads, Body 7x7mm, Pitch 0.5mm, IPC High Density)
pins: 1 TX_CLK, 2 TX_EN, 3 TXD_0, 4 TXD_1, 5 TXD_2, 6 TXD_3/SNI_MODE, 7 PWR_DOWN/INT, 8 NC, 9 NC, 10 NC, 11 NC, 12 NC, 13 RD-, 14 RD+, 15 AGND, 16 TD-, 17 TD+, 18 PFBIN1, 19 AGND, 20 NC, 21 NC, 22 AVDD33, 23 PFBOUT, 24 RBIAS, 25 25MHz_OUT, 26 LED_ACT/COL/LAN_EN, 27 LED_SPEED/AN1, 28 LED_LINK/AN0, 29 RESET_N, 30 MDIO, 31 MDC, 32 IOVDD33, 33 X2, 34 X1, 35 IOGND, 36 DGND, 37 PFBIN2, 38 RX_CLK, 39 RX_DV/MII_MODE, 40 CRS/CRS_DV/LED_CFG, 41 RX_ER/MDIX_EN, 42 COL/PHYAD0, 43 RXD_0/PHYAD1, 44 RXD_1/PHYAD2, 45 RXD_2/PHYAD3, 46 RXD_3/PHYAD4, 47 IOGND, 48 IOVDD33

## ESP8266 ESP-01
designator U?
ESP8266 ESP-01 WiFi Module
footprint ESP8266 ESP-01
pins: 1 GND (power), 2 GPIO2 (power) "GPIO, Internal pull-up", 3 GPIO0 (power) "GPIO, Internal pull-up", 4 RX "UART0, data received pin RXD", 5 VDD (power) "3.3V power supply (VDD)", 6 RST "External reset pin, active low", 7 CH_PD "Chip enable pin, active high", 8 TX "UART0, data send pin TXD"

## Ferrit Bead
designator FB?
footprint FERRIT BEAD_SMD_0402
footprint FERRIT BEAD_SMD_0603
footprint FERRIT BEAD_SMD_0805
footprint FERRIT BEAD_SMD_1206
pins: 1, 2

## FH_Connector_2PIN
designator J?, comment FH_CONN
footprint FHCONN_SMD(1.25)_2PIN
pins: 1, 2

## FH_Connector_3PIN
designator J?, comment FH_CONN
footprint FHCONN_SMD(1.25)_3PIN
pins: 1, 2, 3

## FH_Connector_4PIN
designator J?, comment FH_CONN
footprint FHCONN_SMD(1.25)_4PIN (1.25mm pitch)
pins: 1, 2, 3, 4

## FH_Connector_5PIN
designator J?, comment FH_CONN
footprint FHCONN_SMD(1.25)_5PIN
pins: 1, 2, 3, 4, 5

## FH_Connector_6PIN
designator J?, comment FH_CONN
footprint FHCONN_SMD(1.25)_6PIN
pins: 1, 2, 3, 4, 5, 6

## FH_Connector_7PIN
designator *
footprint FHCONN_SMD(1.25)_7PIN
pins: 1, 2, 3, 4, 5, 6, 7

## FH_Connector_8PIN
designator J?, comment FH_CONN
footprint FHCONN_SMD(1.25)_8PIN
pins: 1, 2, 3, 4, 5, 6, 7, 8

## FH_Connector_9PIN
designator J?, comment FH_CONN
footprint FHCONN_SMD(1.25)_9PIN
pins: 1, 2, 3, 4, 5, 6, 7, 8, 9

## FH_Connector_10PIN
designator J?, comment FH_CONN
footprint FHCONN_SMD(1.25)_10PIN
pins: 1, 2, 3, 4, 5, 6, 7, 8, 9, 10

## FH_Connector_11PIN
designator J?, comment FH_CONN
footprint FHCONN_SMD(1.25)_11PIN (1.25mm pitch)
pins: 1, 2, 3, 4, 5, 6, 7, 8, 9, 10, 11

## FH_Connector_12PIN
designator J?, comment FH_CONN
footprint FHCONN_SMD(1.25)_12PIN (1.25mm pitch)
pins: 1, 2, 3, 4, 5, 6, 7, 8, 9, 10, 11, 12

## FH_Connector_13PIN
designator J?, comment FH_CONN
footprint FHCONN_SMD(1.25)_13PIN (1.25mm pitch)
pins: 1, 2, 3, 4, 5, 6, 7, 8, 9, 10, 11, 12, 13

## FH_Connector_14PIN
designator J?, comment FH_CONN
footprint FHCONN_SMD(1.25)_14PIN (1.25mm pitch)
pins: 1, 2, 3, 4, 5, 6, 7, 8, 9, 10, 11, 12, 13, 14

## FH_Connector_15PIN
designator J?, comment FH_CONN
footprint FHCONN_SMD(1.25)_15PIN (1.25mm pitch)
pins: 1, 2, 3, 4, 5, 6, 7, 8, 9, 10, 11, 12, 13, 14, 15

## FUSE_SMD
designator F?, comment Fuse
footprint RES_SMD_0402
footprint RES_SMD_0603
footprint RES_SMD_0805
footprint RES_SMD_1206
footprint RES_SMD_1210
footprint RES_SMD_1812
footprint RES_SMD_2010
footprint RES_SMD_2512
pins: 1, 2

## GDH04S08
designator S?
DIP Switch; Published: 24-Mar-1999; LatestRevisionDate: 17-Jul-2002; LatestRevisionNote: Re-released for DXP Platform.; PackageReference: DIP-8; Publisher: Altium Limited
footprint DIP SW 4P SMD Half Bridge (1.27mm Pitch)
pins: 1, 2, 3, 4, 5, 6, 7, 8
text: ON

## HEADER_2PIN
designator J?, comment HEADER
pins: 1, 2

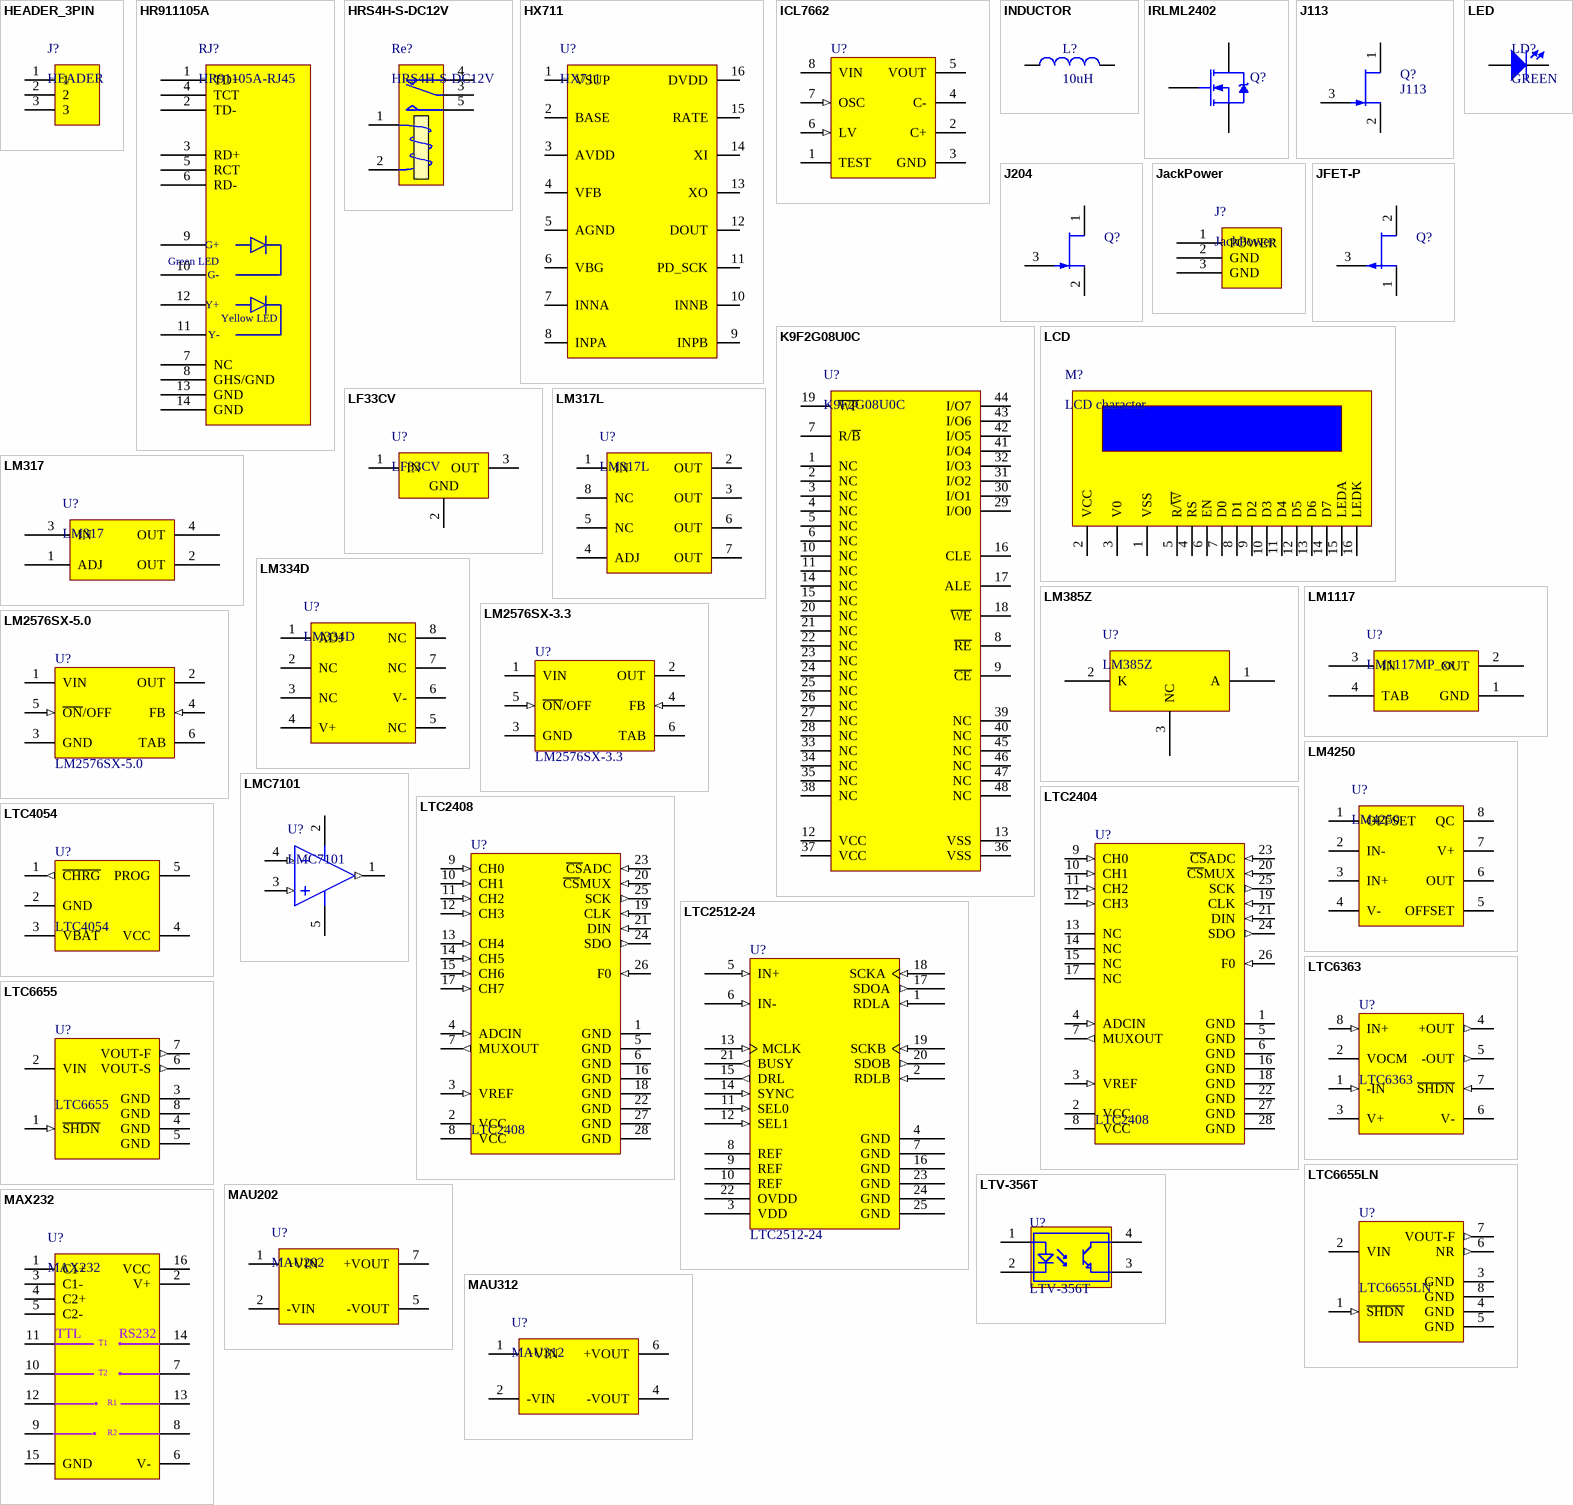
[diagram p2: symbols HEADER_3PIN to MAX232]

## HEADER_3PIN
designator J?, comment HEADER
footprint HDR_1x3 (2.54mm Pitch)
footprint HDR_1x3_RA (2.54mm Pitch)
pins: 1, 2, 3

## HR911105A
designator RJ?, comment HR91105A-RJ45
footprint HR91105A
pins: 1 TD+, 2 TD-, 3 RD+, 4 TCT, 5 RCT, 6 RD-, 7 NC, 8 GHS/GND, 9, 10, 11, 12, 13 GND, 14 GND
text: G+; Green LED; G-; Y+; Yellow LED; Y-

## HRS4H-S-DC12V
designator Re?
footprint HRS4H-S
pins: 1 T1 "Coil", 2 T2 "Coil", 3 COM, 4 NC "Normally Close", 5 NO "Normally Open"

## HX711
designator U?
footprint SOIC16_M (SOIC, 16-Leads, Body 9.9x3.9mm, Pitch 1.27mm)
footprint SOIC16_N (SOIC, 16-Leads, Body 9.9x3.9mm, Pitch 1.27mm)
footprint SOIC16_L (SOIC, 16-Leads, Body 9.9x3.9mm, Pitch 1.27mm)
pins: 1 VSUP, 2 BASE, 3 AVDD, 4 VFB, 5 AGND, 6 VBG, 7 INNA, 8 INPA, 9 INPB, 10 INNB, 11 PD_SCK, 12 DOUT, 13 XO, 14 XI, 15 RATE, 16 DVDD

## ICL7662
designator U?
Monolithic Charge Pump DC-to-DC Voltage inverter, 4.5V to 20V; DatasheetVersion: revB, Nov-2002; PackageVersion: revBB, Aug-2009; PackageReference: SOIC-OA8; PackageDescription: 8-Lead Plastic Small Outline (OA) - Narrow, 3.90mm Body [SOIC]; Code_IPC: SOIC127P600-8; ComponentLink1Description: Manufacturer URL; ComponentLink1URL: http://www.microchip.com/; ComponentLink2Description: Datasheet; ComponentLink2URL: http://ww1.microchip.com/downloads/en/DeviceDoc/21465b.pdf; ComponentLink3Description: Package Specification; ComponentLink3URL: http://www.microchip.com/stellent/groups/techpub_sg/documents/packagingspec/en012702.pdf
footprint SO8
pins: 1 TEST, 2 C+, 3 GND (power), 4 C-, 5 VOUT (power), 6 LV (in), 7 OSC (in), 8 VIN (power)

## INDUCTOR
designator L?, comment 10uH
footprint INDUCTOR_SMD_1206
footprint INDUCTOR_SMD_13x13
footprint INDUCTOR_SMD_5x5 (CD54 (5.2x5.8mm))
footprint INDUCTOR_SMD_12x12 (body 12mm x12mm)
footprint INDUCTOR_SMD_0201 (Chip Inductor, 2-Leads, Body 0/60x0/30mm, IPC Medium Density DESIGNER:ABBAS BASEREH)
footprint INDUCTOR_SMD_0402 (Chip Inductor, 2-Leads, Body 1/00x0/50mm, IPC Medium Density DESIGNER:ABBAS BASEREH)
footprint INDUCTOR_SMD_0603 (Chip Inductor, 2-Leads, Body 1/60x0/80mm, IPC Medium Density DESIGNER:ABBAS BASEREH)
footprint INDUCTOR_SMD_0805 (Chip Inductor, 2-Leads, Body 2/00x1/25mm, IPC Medium Density DESIGNER:ABBAS BASEREH)
footprint INDUCTOR_SMD_1210 (Chip Inductor, 2-Leads, Body 3/20x2/50mm, IPC Medium Density DESIGNER:ABBAS BASEREH)
footprint INDUCTOR_SMD_1812 (Chip Inductor, 2-Leads, Body 4/50x3/20mm, IPC Medium Density DESIGNER:ABBAS BASEREH)
footprint INDUCTOR_SMD_2010 (Chip Inductor, 2-Leads, Body 5/00x2/50mm, IPC Medium Density DESIGNER:ABBAS BASEREH)
footprint INDUCTOR_SMD_2512 (Chip Inductor, 2-Leads, Body 6/40x3/20mm, IPC Medium Density DESIGNER:ABBAS BASEREH)
footprint INDUCTOR_SMD_7X7
pins: 1, 2

## IRLML2402
designator Q?
HEXFET Power MOSFET; Published: 8-Jun-2000; LatestRevisionDate: 20-Nov-2009; LatestRevisionNote: IPC-7351 Footprint Added.; DatasheetVersion: Aug-1997; PackageReference: SOT-23; Publisher: Altium Limited; PackageDescription: 3-Pin SOT-23 Package 0.95 mm Pitch, 2.3 mm Lead Span; ComponentLink1Description: Manufacturer Link; ComponentLink1URL: http://www.irf.com/; ComponentLink2Description: Datasheet; ComponentLink2URL: http://www.irf.com/product-info/datasheets/data/irlml2402.pdf
footprint SOT23_L
footprint SOT23_M
footprint SOT23_N
pins: 1 G, 2 S, 3 D

## J113
designator Q?
N-Channel JFET - 35V, 50mA; Published: 8-Jun-2000; LatestRevisionDate: 17-Jul-2002; LatestRevisionNote: Re-released for DXP Platform.; PackageReference: TO-254-AA; Publisher: Altium Limited; Code_JEDEC: TO-254-AA
footprint TO92
pins: 1 D, 2 S, 3 G

## J204
designator Q?
N-Channel JFET; Published: 8-Jun-2000; LatestRevisionDate: 17-Jul-2002; LatestRevisionNote: Re-released for DXP Platform.; PackageReference: TO-254-AA; Publisher: Altium Limited; Code_JEDEC: TO-254-AA
footprint TO92
footprint SOT23_N
footprint SOT23_M
footprint SOT23_L
pins: 1 D, 2 S, 3 G

## JackPower
designator J?
footprint JACK_POWER (DC Power Jack. Center Pin 2.5mm. Diameter: 5.7mm)
pins: 1 POWER, 2 GND, 3 GND

## JFET-P
designator Q?
P-Channel JFET; Published: 8-Jun-2000; LatestRevisionDate: 17-Jul-2002; LatestRevisionNote: Re-released for DXP Platform.; PackageReference: TO-18A; Publisher: Altium Limited; PackageDescription: SC-89; 3 Flat Leads; Body 1.6 x 1.6 x 0.7 mm, inc leads (LxWxH typ)
pins: 1 D, 2 S, 3 G

## K9F2G08U0C
designator U?
footprint TSOP48
pins: 1 NC "Not Connection", 2 NC "Not Connection", 3 NC "Not Connection", 4 NC "Not Connection", 5 NC "Not Connection", 6 NC "Not Connection", 7 R/~{B} "Ready/Busy Output", 8 ~{RE} "Read Enable", 9 ~{CE} "Chip Enable", 10 NC "Not Connection", 11 NC "Not Connection", 12 VCC "Power", 13 VSS "Ground", 14 NC "Not Connection", 15 NC "Not Connection", 16 CLE "Command Latch Enable", 17 ALE "Address Latch Enable", 18 ~{WE} "Write Enable", 19 ~{WP} "Write Protect", 20 NC "Not Connection", 21 NC "Not Connection", 22 NC "Not Connection", 23 NC "Not Connection", 24 NC "Not Connection", 25 NC "Not Connection", 26 NC "Not Connection", 27 NC "Not Connection", 28 NC "Not Connection", 29 I/O0 "Data Inputs/Outputs", 30 I/O1 "Data Inputs/Outputs", 31 I/O2 "Data Inputs/Outputs", 32 I/O3 "Data Inputs/Outputs", 33 NC "Not Connection", 34 NC "Not Connection", 35 NC "Not Connection", 36 VSS "Ground", 37 VCC "Power", 38 NC "Not Connection", 39 NC "Not Connection", 40 NC "Not Connection", 41 I/O4 "Data Inputs/Outputs", 42 I/O5 "Data Inputs/Outputs", 43 I/O6 "Data Inputs/Outputs", 44 I/O7 "Data Inputs/Outputs", 45 NC "Not Connection", 46 NC "Not Connection", 47 NC "Not Connection", 48 NC "Not Connection"

## LCD
designator M?, comment LCD character
footprint LCD 2X16
pins: 1 VSS, 2 VCC, 3 V0, 4 RS, 5 R/~{W}, 6 EN, 7 D0, 8 D1, 9 D2, 10 D3, 11 D4, 12 D5, 13 D6, 14 D7, 15 LEDA, 16 LEDK

## LED
designator LD?, comment GREEN
footprint LED_SMD_0603
footprint LED_SMD_0805
footprint LED_SMD_1206
footprint LED_5mm
pins: 1 A, 2 K

## LF33CV
designator U?
VERY LOW DROP VOLTAGE REGULATORS WITH INHIBIT
footprint TO-252
pins: 1 IN (power), 2 GND (power), 3 OUT (power)

## LM317
designator U?
1.5A ,1.2 V to 37 V adjustable voltage regulators
footprint SOT223_N (SOT223, 4-Leads, Body 6.5x3.5mm, Pitch 2.3mm, Lead Span 7mm, IPC Medium Density)
footprint SOT223_M (SOT223, 4-Leads, Body 6.5x3.5mm, Pitch 2.3mm, Lead Span 7mm, IPC Low Density)
footprint SOT223_L (SOT223, 4-Leads, Body 6.5x3.5mm, Pitch 2.3mm, Lead Span 7mm, IPC High Density)
pins: 1 ADJ, 2 OUT, 3 IN, 4 OUT

## LM317L
designator U?
100mA ,Low current 1.2 V to 37 V adjustable voltage regulators
footprint SO8
pins: 1 IN, 2 OUT, 3 OUT (power), 4 ADJ, 5 NC (power), 6 OUT (power), 7 OUT (power), 8 NC (power)

## LM334D
designator U?
Constant Current Source and Temperature Sensor, 0.28 mA Isupply,
footprint SOIC8
pins: 1 ADJ, 2 NC, 3 NC (power), 4 V+, 5 NC (power), 6 V- (power), 7 NC (power), 8 NC (power)

## LM385Z
designator U?
Micropower Voltage / Reference Diodes
footprint TO92
footprint LM385
pins: 1 A, 2 K, 3 NC

## LM1117
designator U?, comment LM1117MP_xx
800mA Low-Dropout Linear Regulator, 4-pin SOT-223
footprint SOT223_N (SOT223, 4-Leads, Body 6.5x3.5mm, Pitch 2.3mm, Lead Span 7mm, IPC Medium Density)
footprint SOT223_M (SOT223, 4-Leads, Body 6.5x3.5mm, Pitch 2.3mm, Lead Span 7mm, IPC Low Density)
footprint SOT223_L (SOT223, 4-Leads, Body 6.5x3.5mm, Pitch 2.3mm, Lead Span 7mm, IPC High Density)
pins: 1 GND, 2 OUT, 3 IN, 4 TAB

## LM2576SX-3.3
designator U?
SIMPLE SWITCHER® 3A Step-Down Voltage Regulator, 5-pin TO-263; Manufacturer: National Semiconductor; PackageTopMarking: NSUZXYTTE#*LM2576S*-3.3 P+; PowerWise: N; Published: 1-Mar-2010; DatasheetVersion: Aug-2004; PackageVersion: revD, Apr-2005; PackageReference: TS5B; Publisher: Altium Limited; PackageDescription: TO-263, Molded, .400 x .390 x .180in, 5 Lead, .067in Pitch, Surface Mount; PartNumber: LM2576SX-3.3; RoHS: N; PinCount: 5; CompType: Switcher; Code_JEDEC: MO-169-AB; ComponentLink1Description: LM2576 Datasheet; ComponentLink1URL: http://www.national.com/ds/LM/LM2576.pdf; ComponentLink2Description: LM2576 Web Page; ComponentLink2URL: http://www.national.com/pf/LM/LM2576.html; ComponentLink3Description: TS5B Package Page; ComponentLink3URL: http://www.national.com/packaging/folders/ts5b.html
footprint TO263_5
footprint TS5B_M
pins: 1 VIN (power), 2 OUT (power), 3 GND (power), 4 FB (in), 5 ~{ON}/OFF (in), 6 TAB (power)